# EAGLE library part TAS5634 (library BW-Active)
Audio PWM Amplifier Power Stage
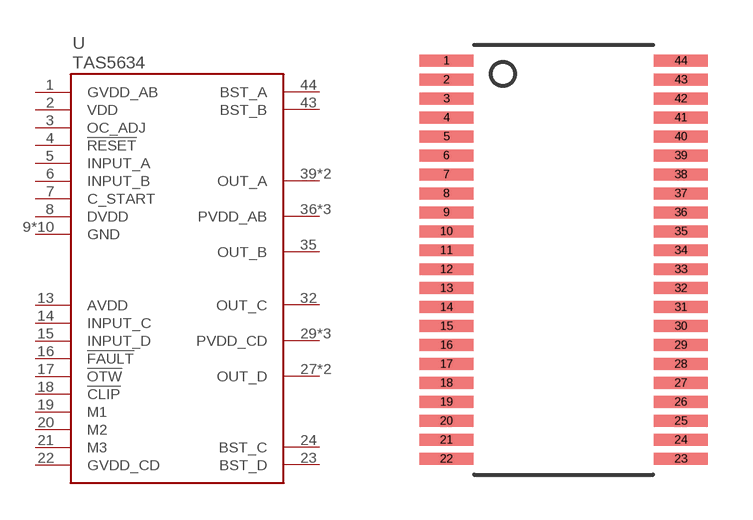
[diagram p33: symbol with the pads of TSSOP44; footprint TSSOP44]

Designator prefix U

## TAS5634  [TSSOP44]
1  GVDD_AB
2  VDD
3  OC_ADJ
4  !RESET
5  INPUT_A
6  INPUT_B
7  C_START
8  DVDD
9  GND
10  GND
11  GND
12  GND
13  AVDD
14  INPUT_C
15  INPUT_D
16  !FAULT
17  !OTW
18  !CLIP
19  M1
20  M2
21  M3
22  GVDD_CD
23  BST_D
24  BST_C
25  GND
26  GND
27  OUT_D
28  OUT_D
29  PVDD_CD
30  PVDD_CD
31  PVDD_CD
32  OUT_C
33  GND
34  GND
35  OUT_B
36  PVDD_AB
37  PVDD_AB
38  PVDD_AB
39  OUT_A
40  OUT_A
41  GND
42  GND
43  BST_B
44  BST_A

## Footprint TSSOP44 (pad centres in mm)
smd 1.8 x 0.4: 1 -3.925,6.668; 2 -3.925,6.032; 3 -3.925,5.397; 4 -3.925,4.763; 5 -3.925,4.128; 6 -3.925,3.493; 7 -3.925,2.857; 8 -3.925,2.223; 9 -3.925,1.587; 10 -3.925,0.953; 11 -3.925,0.318; 12 -3.925,-0.318; 13 -3.925,-0.953; 14 -3.925,-1.587; 15 -3.925,-2.223; 16 -3.925,-2.857; 17 -3.925,-3.493; 18 -3.925,-4.128; 19 -3.925,-4.763; 20 -3.925,-5.397; 21 -3.925,-6.032; 22 -3.925,-6.668; 23 3.925,-6.668; 24 3.925,-6.032; 25 3.925,-5.397; 26 3.925,-4.763; 27 3.925,-4.128; 28 3.925,-3.493; 29 3.925,-2.857; 30 3.925,-2.223; 31 3.925,-1.587; 32 3.925,-0.953; 33 3.925,-0.318; 34 3.925,0.318; 35 3.925,0.953; 36 3.925,1.587; 37 3.925,2.223; 38 3.925,2.857; 39 3.925,3.493; 40 3.925,4.128; 41 3.925,4.763; 42 3.925,5.397; 43 3.925,6.032; 44 3.925,6.668